# Altium schematic symbol library QUTMS_PCBLibrary.SchLib: 25 symbols
Pins are listed as number, name and electrical type; pins without a type are passive.

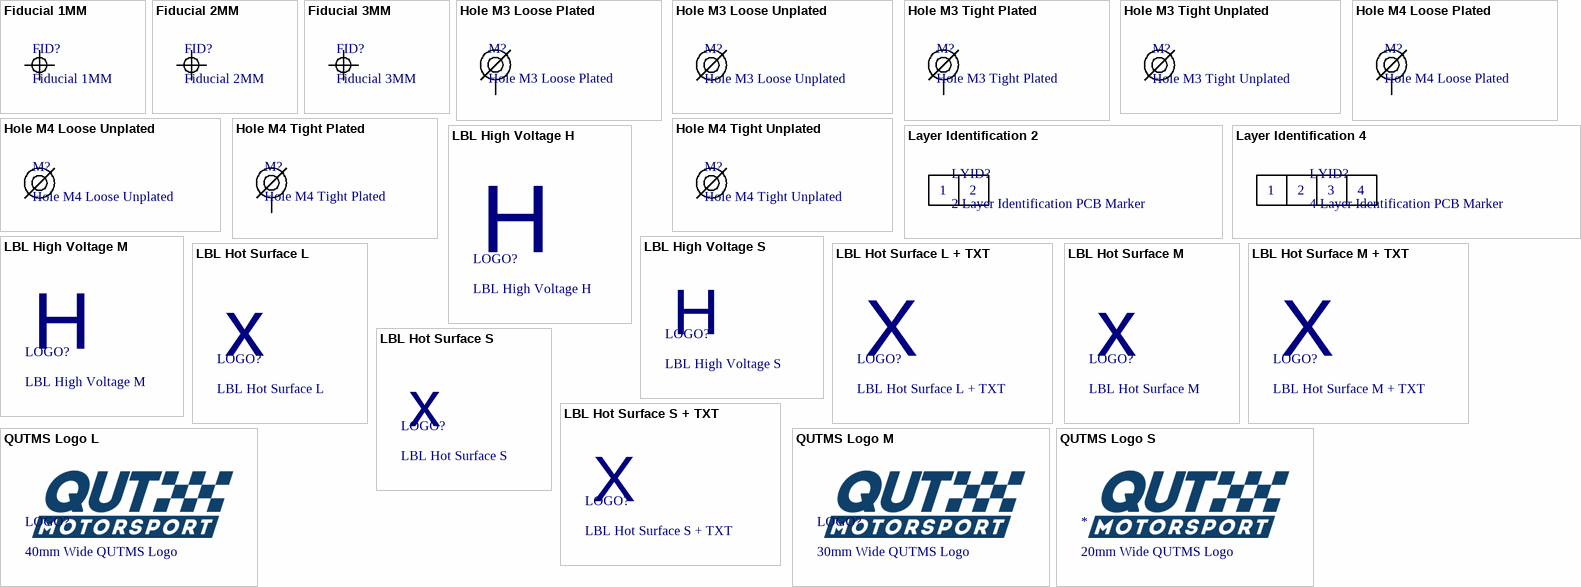
[diagram p0: symbols Fiducial 1MM to QUTMS Logo S]

## Fiducial 1MM
designator FID?
footprint FIDUCIAL 1MM

## Fiducial 2MM
designator FID?
footprint FIDUCIAL 2MM

## Fiducial 3MM
designator FID?
footprint FIDUCIAL 3MM

## Hole M3 Loose Plated
designator M?
M3.5 Hole, Plated
footprint M3.5 PLATED
pins: 1

## Hole M3 Loose Unplated
designator M?
M3.5 Hole, No Plating
footprint M3.5 UNPLATED

## Hole M3 Tight Plated
designator M?
M3.2 Hole, Plated
footprint M3.2 PLATED
pins: 1

## Hole M3 Tight Unplated
designator M?
M3.2 Hole, No Plating
footprint M3.2 UNPLATED

## Hole M4 Loose Plated
designator M?
M4.5 Hole, Plated
footprint M4.5 PLATED
pins: 1

## Hole M4 Loose Unplated
designator M?
M4.5 Hole, No Plating
footprint M4.5 UNPLATED

## Hole M4 Tight Plated
designator M?
M4.2 Hole, Plated
footprint M4.2 PLATED
pins: 1

## Hole M4 Tight Unplated
designator M?
M4.2 Hole, No Plating
footprint M4.2 UNPLATED

## Layer Identification 2
designator LYID?, comment 2 Layer Identification PCB Marker
footprint LAYER IDENT 2
text: 1; 2

## Layer Identification 4
designator LYID?, comment 4 Layer Identification PCB Marker
footprint LAYER IDENT 4
text: 1; 2; 3; 4

## LBL High Voltage H
designator LOGO?
footprint LBL HV LARGE
text: H

## LBL High Voltage M
designator LOGO?
footprint LBL HV MEDIUM
text: H

## LBL High Voltage S
designator LOGO?
footprint LBL HV SMALL
text: H

## LBL Hot Surface L
designator LOGO?
footprint LBL HOT LARGE
text: x

## LBL Hot Surface L + TXT
designator LOGO?
footprint LBL HOT LARGE TXT
text: X

## LBL Hot Surface M
designator LOGO?
footprint LBL HOT MEDIUM
text: x

## LBL Hot Surface M + TXT
designator LOGO?
footprint LBL HOT MEDIUM TXT
text: X

## LBL Hot Surface S
designator LOGO?
footprint LBL HOT SMALL
text: x

## LBL Hot Surface S + TXT
designator LOGO?
footprint LBL HOT SMALL TXT
text: X

## QUTMS Logo L
designator LOGO?, comment 40mm Wide QUTMS Logo

## QUTMS Logo M
designator LOGO?, comment 30mm Wide QUTMS Logo

## QUTMS Logo S
designator *, comment 20mm Wide QUTMS Logo